# Altium integrated library ADNS-5050.IntLib: 1 symbol
Pins are listed as number, name and electrical type; pins without a type are passive.

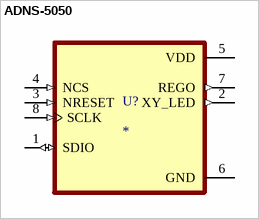
[diagram p0: symbol ADNS-5050]

## ADNS-5050
designator U?
IC USB OPT MOUSE SENSOR HS 8-DIP; MF: Broadcom Limited; MP: ADNS-5050; Price: None; SnapEDA_Link: https://www.snapeda.com/parts/ADNS-5050/Broadcom+Limited/view-part/?ref=snap; Check_prices: https://www.snapeda.com/parts/ADNS-5050/Broadcom+Limited/view-part/?ref=eda; Package: DIP-8 Broadcom Limited; Availability: Not in stock; Value: *
footprint ADNS-2610
pins: 1 SDIO (io), 2 XY_LED (out), 3 NRESET (in), 4 NCS (in), 5 VDD (power), 6 GND (power), 7 REGO (out), 8 SCLK (in)